# Altium footprint library MWKbasic1.PcbLib: 42 footprints (part 3 of 3)
Each footprint in its own frame and in the unit in brackets; x right, y up, seen from the top. Pads: shape width x height; smd on the part's side, far side on the other; paste and mask are expansions set on the pad; w line width, h text height; cw(c..) or ccw(c..) is an arc to the next point about the centre after c.
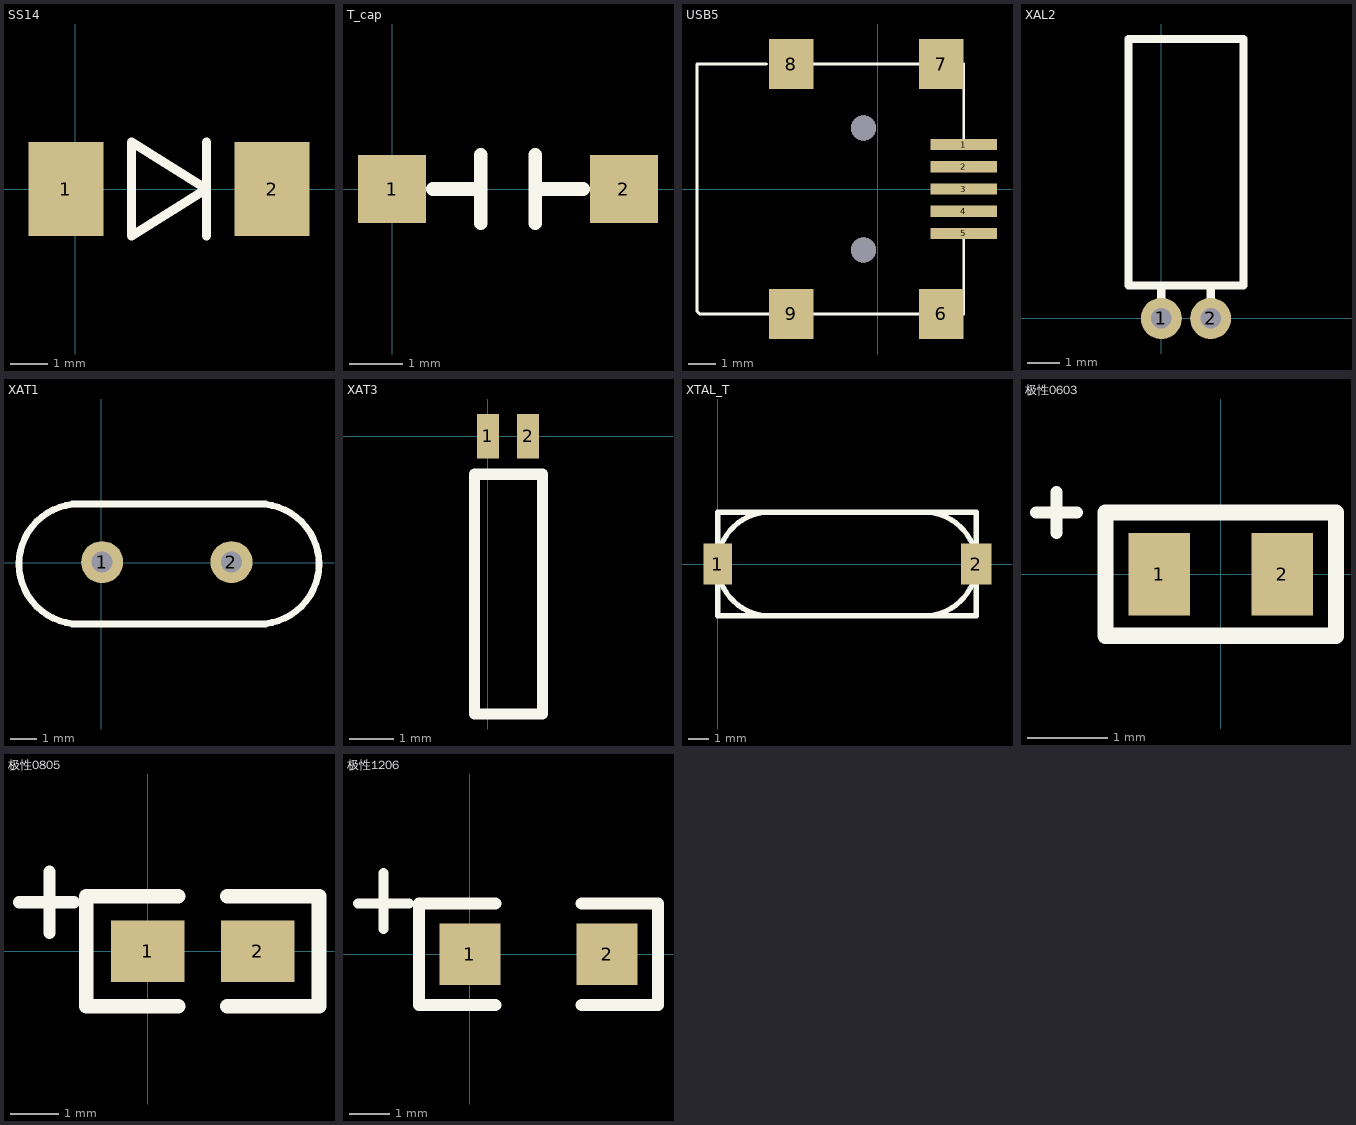
[diagram p2: the footprints below, top view; thin cyan lines are the x and y axes]

## SS14 [mil]
pads (2):
  rect 80x100 smd: 1(-10,0) 2(210,0)
Top Overlay:
  lines w10: 140,-50 140,50 ; 60,-50 60,50 140,0 60,-50

## T_cap [mil]
pads (2):
  rect 50x50 smd: 1(0,0) 2(170,0)
Top Overlay:
  lines w10: 30,0 65,0 ; 65,-25 65,25 ; 105,-25 105,25 ; 105,0 140,0

## USB5 [mm]
pads (9):
  rect 2.4x0.4 smd: 1(3.1,1.6) 2(3.1,0.8) 3(3.1,0) 4(3.1,-0.8) 5(3.1,-1.6)
  rect 1.6x1.8 smd: 6(2.3,-4.5) 7(2.3,4.5) 8(-3.1,4.5) 9(-3.1,-4.5)
via -0.5,2.2 diameter 0.9 hole 0.9
via -0.5,-2.2 diameter 0.9 hole 0.9
Top Overlay:
  lines w0.1: -4,4.5 -6.5,4.5 -6.5,-4.4 -6.4,-4.5 -3.9,-4.5 ; -2.3,-4.5 1.5,-4.5 ; -2.3,4.5 1.5,4.5 ; 3.1,-4.5 3.1,-1.8 ; 3.1,1.8 3.1,4.5

## XAL2 [mil] "32767"
height 196.85
pads (2):
  round 50 hole 25: 1(0,0) 2(60,0)
Top Overlay:
  lines w10: 0,20 0,40 ; 60,20 60,40 ; -40,40 -40,340 100,340 100,40 -40,40

## XAT1 [mm]
pads (2):
  round 1.6 hole 0.8: 1(0.025,0.025) 2(4.953,0.025)
Top Overlay:
  lines w0.254: -1.11,-2.333 6.256,-2.333 ; -1.11,2.239 6.256,2.239 ; -0.856,-2.333 cw(c-0.856,-0.047) -0.856,2.239 ; 6.002,-2.333 ccw(c6.002,-0.047) 6.002,2.239

## XAT3 [mil]
pads (2):
  rect 20x40 smd: 1(0,0) 2(36,0)
Top Overlay:
  lines w10: -12,-249 -12,-34 49,-34 49,-249 -12,-249

## XTAL_T [mil]
pads (2):
  rect 55x80 smd: 1(0,0)
  rect 59x80 smd: 2(500,0)
Top Overlay:
  lines w10: 100,-100 cw(c100,0) 100,100 ; 400,-100 ccw(c400,0) 400,100 ; 0,-100 500,-100 500,100 0,100 0,-100

## 极性0603 [mil]
height 43.31
pads (2):
  rect 30x40 smd: 1(-30,0) 2(30,0)
Top Overlay:
  lines w5.91: -90,30 -70,30 ; -80,20 -80,40
  lines w7.87: 56.14,-30.04 56.14,30 -56.14,30 -56.14,-30 56.14,-30

## 极性0805 [mil]
pads (2):
  rect 60x50 smd: 1(0,0) 2(90,0)
Top Overlay:
  lines w10: -105,40 -60,40 ; -80,15 -80,65
  lines w12: 25,-45 -50,-45 -50,45 25,45 ; 65,-45 140,-45 140,45 65,45

## 极性1206 [mil]
pads (2):
  rect 60x60 smd: 1(0,0) 2(135,0)
Top Overlay:
  lines w10: -110,50 -60,50 ; -85,25 -85,80
  lines w12: 25,-50 -50,-50 -50,50 25,50 ; 110,-50 185,-50 185,50 110,50